# Altium schematic symbol library DRV8814PWPR.Schlib: 1 symbol
Pins are listed as number, name and electrical type; pins without a type are passive.

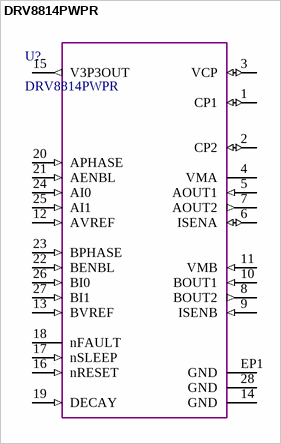
[diagram p0: symbol DRV8814PWPR]

## DRV8814PWPR
designator U?
pins: 1 CP1 (io) "Charge pump flying capacitor", 2 CP2 (io) "Charge pump flying capacitor", 3 VCP (io) "High-side gate drive voltage", 4 VMA (power) "Bridge A power supply", 5 AOUT1 (in) "Bridge A output 1", 6 ISENA (io) "Bridge A ground / Isense", 7 AOUT2 (out) "Bridge A output 2", 8 BOUT2 (out) "Bridge B output 2", 9 ISENB (in) "Bridge B ground / Isense", 10 BOUT1 (in) "Bridge B output 1", 11 VMB (in) "Bridge B power supply", 12 AVREF (in) "Bridge A current set reference input", 13 BVREF (in) "Bridge B current set reference input", 14 GND (power) "Device ground", 15 V3P3OUT (out) "3.3-V regulator output", 16 nRESET (in) "Reset input", 17 nSLEEP (in) "Sleep mode input", 18 nFAULT (oc) "Fault", 19 DECAY (in) "Decay (brake) mode", 20 APHASE (in) "Bridge A phase (direction)", 21 AENBL (in) "Bridge A enable", 22 BENBL (in) "Bridge B enable", 23 BPHASE (in) "Bridge B phase (direction)", 24 AI0 (in) "Bridge A current set", 25 AI1 (in) "Bridge A current set", 26 BI0 (in) "Bridge B current set", 27 BI1 (in) "Bridge B current set", 28 GND (power) "Device ground", EP1 GND (power) "Device ground"